# EAGLE library part ETHERNET (library FCC_parts)
Ethernet port with 2 leds. digikey number A122645-ND
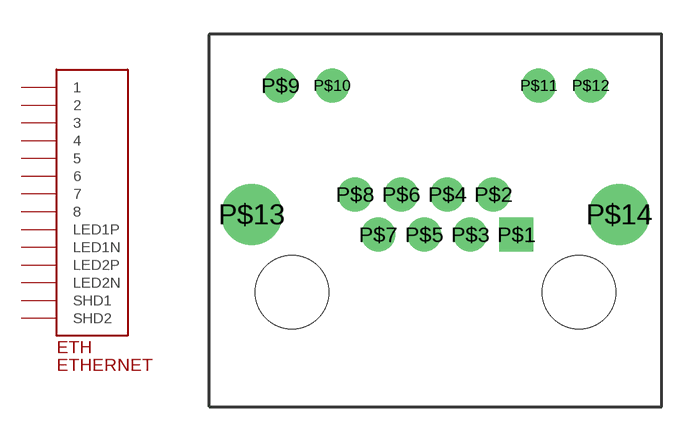
[diagram p3: symbol with the pads of A122645-ND; footprint A122645-ND]

Designator prefix ETH

## ETHERNET  [A122645-ND]
P$1  1
P$2  2
P$3  3
P$4  4
P$5  5
P$6  6
P$7  7
P$8  8
P$9  LED1N
P$10  LED1P
P$11  LED2N
P$12  LED2P
P$13  SHD1
P$14  SHD2

## Footprint A122645-ND (pad centres in mm)
drill 1 square: P$1 3.58,2.54
drill 1: P$2 2.56,4.32; P$3 1.54,2.54; P$4 0.52,4.32; P$5 -0.5,2.54; P$6 -1.52,4.32; P$7 -2.54,2.54; P$8 -3.56,4.32; P$9 -6.86,9.14; P$10 -4.57,9.14; P$11 4.57,9.14; P$12 6.86,9.14
drill 1.8: P$13 -8.13,3.43; P$14 8.13,3.43
hole 3.25 at -6.35,0
hole 3.25 at 6.35,0